# Altium schematic symbol library SPDTx1.SchLib: 1 symbol
Pins are listed as number, name and electrical type; pins without a type are passive.

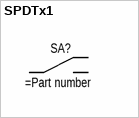
[diagram p0: symbol SPDTx1]

## SPDTx1
designator SA?
ValueManufacturerPartNumber: Tactile button, *; TypeButton: Tactile button; Manufacturer: *; HelpURL: *; PartNumber: *; Package: *
pins: 1, 2, 3